# EAGLE library part FDC6420C (library pixel_masterlib)
Mosfet Array N and P-Channel 20V 3A, 2.2A 700mW Surface Mount SuperSOT™-6
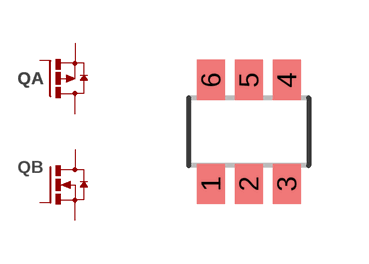
[diagram p5: symbol with the pads of SOT23-6; footprint SOT23-6]

Designator prefix Q; gates A=P-FET B=N-FET

## FDC6420C (DIGIKEY#: FDC6420CTR-ND; MANF: Fairchild; MANF#: FDC6420C)  [SOT23-6]
1  B:G  pas
2  A:D  pas
3  A:G  pas
4  A:S  pas
5  B:S  pas
6  B:D  pas

## Footprint SOT23-6 (pad centres in mm)
smd 0.7 x 1: 1 -0.95,-1.3; 2 0,-1.3; 3 0.95,-1.3; 4 0.95,1.3; 5 0,1.3; 6 -0.95,1.3